# EAGLE library part RELAY-TE-HF3 (library aarf)
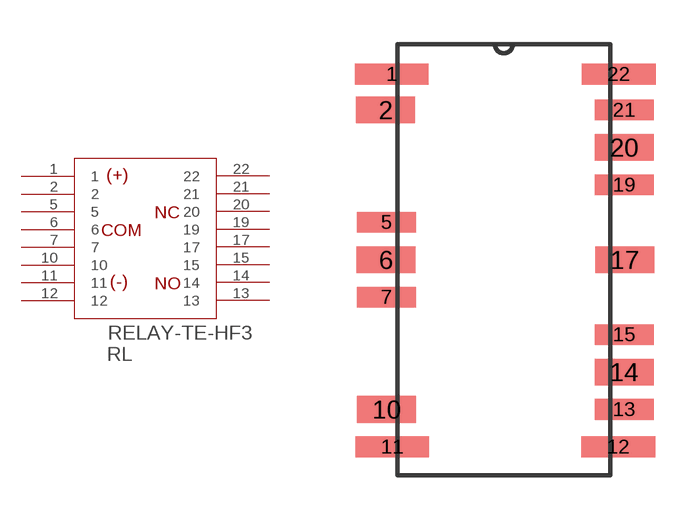
[diagram p10: symbol with the pads of RELAY-TE-HF3; footprint RELAY-TE-HF3]

Designator prefix RL

## RELAY-TE-HF3 (IMPEDANCE: 50R)  [RELAY-TE-HF3]
1  1  pwr
2  2  sup
5  5  sup
6  6
7  7  sup
10  10  sup
11  11  pwr
12  12  sup
13  13  sup
14  14
15  15  sup
17  17  sup
19  19  sup
20  20
21  21  sup
22  22  sup

## Footprint RELAY-TE-HF3 (pad centres in mm)
50 ohm variant - Tyco HF3 series
smd 2.5 x 0.7: 1 -3.8,6.3; 11 -3.783,-6.348; 12 3.883,-6.348; 22 3.9,6.3
smd 2 x 0.9: 2 -4.01,5.082; 6 -4,0; 10 -3.975,-5.077; 14 4.083,-3.808; 17 4.1,0; 20 4.083,3.812
smd 2 x 0.7: 5 -3.983,1.272; 7 -3.983,-1.268; 13 4.083,-5.077; 15 4.083,-2.538; 19 4.083,2.542; 21 4.083,5.082